# Altium footprint library 11-Fuse.PcbLib: 50 footprints (part 3 of 4)
Each footprint in its own frame and in the unit in brackets; x right, y up, seen from the top. Pads: shape width x height; smd on the part's side, far side on the other; paste and mask are expansions set on the pad; w line width, h text height; cw(c..) or ccw(c..) is an arc to the next point about the centre after c.
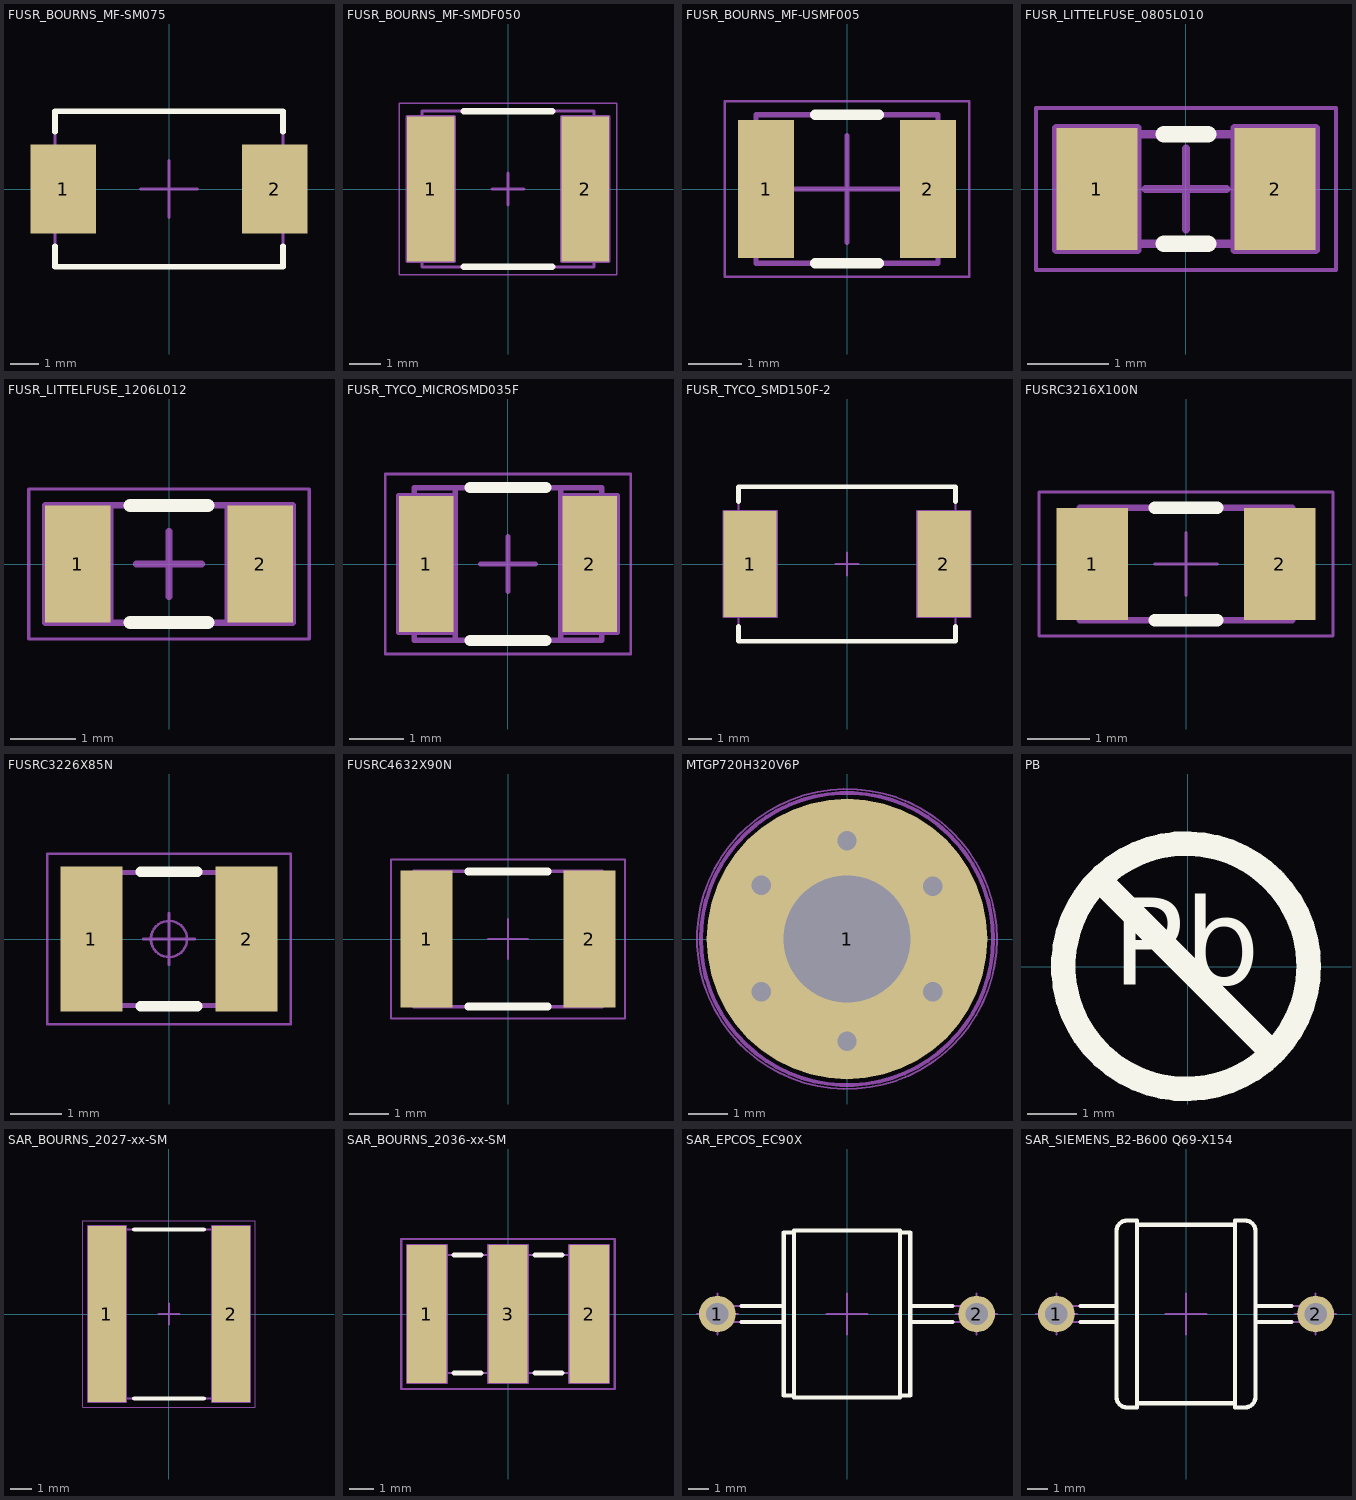
[diagram p2: the footprints below, top view; thin cyan lines are the x and y axes]

## FUSR_BOURNS_MF-SM075 [mm] "PolySwitch, 2-Leads, Body 7.35x5.12mm Nominal"
height 3.18
pads (2):
  rect 2.3x3.1 smd: 1(-3.7,0) 2(3.7,0)
Top Overlay:
  lines w0.2: -3.99,-2 -3.99,-2.72 3.99,-2.72 3.99,-2 ; -3.99,2 -3.99,2.72 3.99,2.72 3.99,2
Mechanical 8:
  lines w0.1: -4.635,0 -3.635,0 ; -3.635,-1 -3.635,0 ; -3.635,1 -3.635,0 ; -2.635,0 -3.635,0 ; -1,0 0,0 ; 0,-1 0,0 ; 0,1 0,0 ; 1,0 0,0 ; 2.635,0 3.635,0 ; 3.635,-1 3.635,0 ; 3.635,1 3.635,0 ; 4.635,0 3.635,0
Mechanical 14:
  lines w0.1: 3.99,-1.205 3.99,1.205 ; -3.99,-2.72 -3.99,2.72 3.99,2.72 3.99,-2.72 -3.99,-2.72
3D body "FUSR_BOURNS_MF-SM075.stp": height 3.18, standoff 0, extent -3.99,-2.72 3.99,2.72
3D body "p310-230.stp": height 0.02, standoff 0, extent -4.85,-1.55 -2.55,1.55
3D body "p310-230.stp": height 0.02, standoff 0, extent 2.55,-1.55 4.85,1.55

## FUSR_BOURNS_MF-SMDF050 [mm] "PTC Resettable Fuse, MF-SMDF Series"
height 1.09
pads (2):
  rect 1.5x4.6 smd: 1(-2.45,0) 2(2.45,0)
Top Overlay:
  lines w0.2: -1.4,-2.465 1.4,-2.465 ; -1.4,2.465 1.4,2.465
Mechanical 8:
  lines w0.1: -2.95,0 -2.45,0 ; -2.45,-0.5 -2.45,0 ; -2.45,0.5 -2.45,0 ; -1.95,0 -2.45,0 ; -0.5,0 0,0 ; 0,-0.5 0,0 ; 0,0.5 0,0 ; 0.5,0 0,0 ; 1.95,0 2.45,0 ; 2.45,-0.5 2.45,0 ; 2.45,0.5 2.45,0 ; 2.95,0 2.45,0 ; 1.7,-2.3 3.2,-2.3 3.2,2.3 1.7,2.3 ; 1.7,-2.3 1.7,2.3 ; 1.7,-2.3 1.7,2.3 ; -3.2,-2.3 -1.7,-2.3 -1.7,2.3 -3.2,2.3 -3.2,-2.3
Mechanical 14:
  lines w0.1: -2.72,-2.3 -1.7,-2.3 -1.7,2.3 -2.72,2.3 ; 2.72,-2.3 1.7,-2.3 1.7,2.3 2.72,2.3 ; -2.72,-2.465 2.72,-2.465 2.72,-0.5 cw(c2.72,0) 2.72,0.5 2.72,2.465 -2.72,2.465 -2.72,0.5 cw(c-2.72,0) -2.72,-0.5 -2.72,-2.465
Mechanical 15:
  lines w0.05: -3.45,-2.715 -3.45,2.715 3.45,2.715 3.45,-2.715 -3.45,-2.715
3D body "FUSR_BOURNS_MF-SMDF050.stp": height 1.09, standoff 0, extent -2.72,-2.465 2.72,2.465
3D body "p460-150.stp": height 0.02, standoff 0, extent 1.7,-2.3 3.2,2.3
3D body "p460-150.stp": height 0.02, standoff 0, extent -3.2,-2.3 -1.7,2.3

## FUSR_BOURNS_MF-USMF005 [mm] "PTC Resettable Fuse, Body 3.215mmx2.575mm, BOURNS MF-USMF Series"
height 1.1
pads (2):
  rect 1.05x2.6 smd: 1(-1.525,0) 2(1.525,0)
Top Overlay:
  lines w0.2: -0.6,-1.4 0.6,-1.4 ; -0.6,1.4 0.6,1.4
Mechanical 8:
  lines w0.1: -1,0 0,0 ; 0,-1 0,0 ; 0,1 0,0 ; 1,0 0,0
Mechanical 14:
  lines w0.1: -1.715,-1.4 1.715,-1.4 1.715,1.4 -1.715,1.4 -1.715,-1.4
Mechanical 15:
  lines w0.05: -2.3,-1.65 -2.3,1.65 2.3,1.65 2.3,-1.65 -2.3,-1.65
3D body "p260-105.stp": height 0.02, standoff 0, extent -2.049,-1.3 -0.999,1.3
3D body "p260-105.stp": height 0.02, standoff 0, extent 0.999,-1.3 2.049,1.3
3D body "FUSR_BOURNS_MF-USMF005.stp": height 1.1, standoff 0, extent -1.715,-1.4 1.715,1.4

## FUSR_LITTELFUSE_0805L010 [mm] "Surface Mount POLY-FUSE?Resettable PTC, 0805L Series"
height 1
pads (2):
  rect 1x1.5 smd: 1(-1.1,0) 2(1.1,0)
Top Overlay:
  lines w0.2: -0.275,-0.675 0.275,-0.675 ; -0.275,0.675 0.275,0.675
Mechanical 8:
  lines w0.1: -1.6,0 -1.1,0 ; -1.1,-0.5 -1.1,0 ; -1.1,0.5 -1.1,0 ; -0.6,0 -1.1,0 ; -0.5,0 0,0 ; 0,-0.5 0,0 ; 0,0.5 0,0 ; 0.5,0 0,0 ; 0.6,0 1.1,0 ; 1.1,-0.5 1.1,0 ; 1.1,0.5 1.1,0 ; 1.6,0 1.1,0 ; -1.6,-0.75 -0.6,-0.75 -0.6,0.75 -1.6,0.75 -1.6,-0.75 ; 0.6,-0.75 1.6,-0.75 1.6,0.75 0.6,0.75 0.6,-0.75
Mechanical 14:
  lines w0.1: -0.675,-0.675 -0.675,0.675 ; -0.675,-0.675 0.675,-0.675 ; -0.675,-0.675 -1.05,-0.675 -1.05,-0.275 ccw(c-1.05,0) -1.05,0.275 -1.05,0.675 -0.675,0.675 ; -0.675,-0.675 -0.675,0.675 ; -0.675,0.675 0.675,0.675 ; 0.675,-0.675 0.675,0.675 ; 0.675,-0.675 1.05,-0.675 1.05,-0.275 cw(c1.05,0) 1.05,0.275 1.05,0.675 0.675,0.675 ; 0.675,-0.675 0.675,0.675
Mechanical 15:
  lines w0.05: -1.85,-1 -1.85,1 1.85,1 1.85,-1 -1.85,-1
3D body "FUSR_LITTELFUSE_0805L010.stp": height 1, standoff 0, extent -1.05,-0.675 1.05,0.675
3D body "p150-130.stp": height 0.02, standoff 0, extent 0.4,-0.75 1.7,0.75
3D body "p150-130.stp": height 0.02, standoff 0, extent -1.7,-0.75 -0.4,0.75

## FUSR_LITTELFUSE_1206L012 [mm] "Surface Mount POLY-FUSE?Resettable PTC, 1206L Series"
height 1.45
pads (2):
  rect 1x1.8 smd: 1(-1.4,0) 2(1.4,0)
Top Overlay:
  lines w0.2: -0.6,-0.9 0.6,-0.9 ; -0.6,0.9 0.6,0.9
Mechanical 8:
  lines w0.1: -1.9,0 -1.4,0 ; -1.4,-0.5 -1.4,0 ; -1.4,0.5 -1.4,0 ; -0.9,0 -1.4,0 ; -0.5,0 0,0 ; 0,-0.5 0,0 ; 0,0.5 0,0 ; 0.5,0 0,0 ; 0.9,0 1.4,0 ; 1.4,-0.5 1.4,0 ; 1.4,0.5 1.4,0 ; 1.9,0 1.4,0 ; -1.9,-0.9 -1.9,0.9 -0.9,0.9 -0.9,-0.9 -1.9,-0.9 ; 0.9,-0.9 1.9,-0.9 1.9,0.9 0.9,0.9 0.9,-0.9
Mechanical 14:
  lines w0.1: -1,-0.9 -1,0.9 ; 1,-0.9 1,0.9 ; -1.75,-0.9 -1.75,-0.225 ccw(c-1.75,0) -1.75,0.225 -1.75,0.9 1.75,0.9 1.75,0.225 ccw(c1.75,0) 1.75,-0.225 1.75,-0.9 -1.75,-0.9
Mechanical 15:
  lines w0.05: -2.15,-1.15 2.15,-1.15 2.15,1.15 -2.15,1.15 -2.15,-1.15
3D body "p180-115.stp": height 0.02, standoff 0, extent 0.822,-0.9 1.972,0.9
3D body "p180-115.stp": height 0.02, standoff 0, extent -1.972,-0.9 -0.822,0.9
3D body "FUSR_LITTELFUSE_1206L012.stp": height 1.45, standoff 0, extent -1.75,-0.9 1.75,0.9

## FUSR_TYCO_MICROSMD035F [mm] "PolySwitch, PTC Devices, 2-Leads, Body 3.215 x 2.575mm"
height 0.62
pads (2):
  rect 1x2.5 smd: 1(-1.5,0) 2(1.5,0)
Top Overlay:
  lines w0.2: -0.7,-1.4 0.7,-1.4 ; -0.7,1.4 0.7,1.4
Mechanical 8:
  lines w0.1: -2,0 -1.5,0 ; -1.5,-0.5 -1.5,0 ; -1.5,0.5 -1.5,0 ; -1,0 -1.5,0 ; -0.5,0 0,0 ; 0,-0.5 0,0 ; 0,0.5 0,0 ; 0.5,0 0,0 ; 1,0 1.5,0 ; 1.5,-0.5 1.5,0 ; 1.5,0.5 1.5,0 ; 2,0 1.5,0 ; -2,-1.25 -2,1.25 -1,1.25 -1,-1.25 -2,-1.25 ; 1,-1.25 1,1.25 2,1.25 2,-1.25 1,-1.25
Mechanical 14:
  lines w0.1: -0.965,-1.4 -0.965,1.4 ; 0.965,-1.4 0.965,1.4 ; -1.715,-1.4 -1.715,1.4 1.715,1.4 1.715,-1.4 -1.715,-1.4
Mechanical 15:
  lines w0.05: -2.25,-1.65 -2.25,1.65 2.25,1.65 2.25,-1.65 -2.25,-1.65
3D body "p260-105.stp": height 0.02, standoff 0, extent -2.049,-1.3 -0.999,1.3
3D body "p260-105.stp": height 0.02, standoff 0, extent 0.999,-1.3 2.049,1.3
3D body "FUSR_TYCO_MICROSMD035F.stp": height 0.62, standoff 0, extent -1.7,-1.4 1.7,1.4

## FUSR_TYCO_SMD150F-2 [mm] "PolySwitch, 2-Leads, Body 8.7x6.35mm Nominal"
height 3
pads (2):
  rect 2.3x4.6 smd: 1(-4.2,0) 2(4.2,0)
Top Overlay:
  lines w0.2: -4.7,-2.7 -4.7,-3.355 4.7,-3.355 4.7,-2.7 ; -4.7,2.7 -4.7,3.355 4.7,3.355 4.7,2.7
Mechanical 8:
  lines w0.1: -4.7,0 -4.2,0 ; -4.2,-0.5 -4.2,0 ; -4.2,0.5 -4.2,0 ; -3.7,0 -4.2,0 ; -0.5,0 0,0 ; 0,-0.5 0,0 ; 0,0.5 0,0 ; 0.5,0 0,0 ; 3.7,0 4.2,0 ; 4.2,-0.5 4.2,0 ; 4.2,0.5 4.2,0 ; 4.7,0 4.2,0 ; -5.35,-2.3 -5.35,2.3 -3.05,2.3 -3.05,-2.3 -5.35,-2.3 ; 3.05,-2.3 3.05,2.3 5.35,2.3 5.35,-2.3 3.05,-2.3
Mechanical 14:
  lines w0.1: -4.7,-3.355 4.7,-3.355 4.7,3.355 -4.7,3.355 -4.7,-3.355
3D body "FUSR_TYCO_SMDC150F-2.stp": height 3, standoff 0, extent -4.7,-3.355 4.7,3.355
3D body "p460-150.stp": height 0.02, standoff 0, extent 3.95,-2.3 5.45,2.3
3D body "p460-150.stp": height 0.02, standoff 0, extent -5.45,-2.3 -3.95,2.3

## FUSRC3216X100N [mm] "Chip Resettable Fuse, 2-Leads, Body 3.2mmx1.6mm, IPC Medium Density"
height 1
pads (2):
  rect 1.15x1.8 smd: 1(-1.5,0) 2(1.5,0)
Top Overlay:
  lines w0.2: -0.5,-0.9 0.5,-0.9 ; -0.5,0.9 0.5,0.9
Mechanical 14:
  lines w0.1: -1.7,-0.9 -1.7,0.9 1.7,0.9 1.7,-0.9 -1.7,-0.9
Mechanical 15:
  lines w0.05: -0.5,0 0.5,0 ; 0,-0.5 0,0.5 ; -2.35,-1.15 -2.35,1.15 2.35,1.15 2.35,-1.15 -2.35,-1.15
3D body "FUSRC3216X100N.stp": height 1, standoff 0, extent -1.7,-0.9 1.7,0.9
3D body "p180-115.stp": height 0.02, standoff 0, extent -2.099,-0.9 -0.949,0.9
3D body "p180-115.stp": height 0.02, standoff 0, extent 0.949,-0.9 2.099,0.9

## FUSRC3226X85N [mm] "Chip Resettable Fuse, 2-Leads, Body 3.2mm x 2.6mm, IPC Medium Density"
height 0.85
pads (2):
  rect 1.2x2.8 smd: 1(-1.5,0) 2(1.5,0)
Top Overlay:
  lines w0.2: -0.55,-1.3 0.55,-1.3 ; -0.55,1.3 0.55,1.3
Mechanical 14:
  lines w0.1: -1.608,-1.288 -1.608,1.288 1.608,1.288 1.608,-1.288 -1.608,-1.288
Mechanical 15:
  circle w0.05: c0,0 r0.35
  lines w0.05: -0.5,0 0.5,0 ; 0,-0.5 0,0.5 ; -2.35,-1.65 -2.35,1.65 2.35,1.65 2.35,-1.65 -2.35,-1.65
3D body "p280-120.stp": height 0.02, standoff 0, extent -2.124,-1.4 -0.924,1.4
3D body "p280-120.stp": height 0.02, standoff 0, extent 0.924,-1.4 2.124,1.4
3D body "FUSRC3226X85N.stp": height 0.85, standoff 0, extent -1.7,-1.4 1.7,1.4

## FUSRC4632X90N [mm] "Chip Resettable Fuse, 2-Leads, Body 4.6x3.2mm, IPC Medium Density"
height 0.89
pads (2):
  rect 1.3x3.45 smd: 1(-2.05,0) 2(2.05,0)
Top Overlay:
  lines w0.2: -1,-1.7 1,-1.7 ; -1,1.7 1,1.7
Mechanical 14:
  lines w0.1: -2.365,-1.705 -2.365,1.705 2.365,1.705 2.365,-1.705 -2.365,-1.705
Mechanical 15:
  lines w0.05: -0.5,0 0.5,0 ; 0,-0.5 0,0.5 ; -2.95,-2 -2.95,2 2.95,2 2.95,-2 -2.95,-2
3D body "p345-130.stp": height 0.02, standoff 0, extent 1.4,-1.725 2.7,1.725
3D body "p345-130.stp": height 0.02, standoff 0, extent -2.7,-1.725 -1.4,1.725
3D body "FUSRC4632X90N.stp": height 0.89, standoff 0, extent -2.365,-1.705 2.365,1.705

## MTGP720H320V6P [mm]
pads (1):
  round 7.2 hole 3.25: 1(0,0)
via 2.2,-1.35 diameter 1 hole 0.5
via 0,-2.625 diameter 1 hole 0.5
via 2.2,1.35 diameter 1 hole 0.5
via 0,2.525 diameter 1 hole 0.5
via -2.2,1.375 diameter 1 hole 0.5
via -2.2,-1.35 diameter 1 hole 0.5
Mechanical 8:
  circle w0.1: c0,0 r3.75
  circle w0.1: c0,0 r2.6
  lines w0.1: -2.657,1.625 -2.224,1.375 ; -2.632,-1.6 -2.199,-1.35 ; -2.474,0.942 -2.224,1.375 ; -2.449,-0.917 -2.199,-1.35 ; -1.974,1.808 -2.224,1.375 ; -1.949,-1.783 -2.199,-1.35 ; -1.791,1.125 -2.224,1.375 ; -1.766,-1.1 -2.199,-1.35 ; -0.5,-2.625 0,-2.625 ; -0.5,0 0,0 ; -0.5,2.525 0,2.525 ; 0,-3.125 0,-2.625 ; 0,-2.125 0,-2.625 ; 0,-0.5 0,0 ; 0,0.5 0,0 ; 0,2.025 0,2.525 ; 0,3.025 0,2.525 ; 0.5,-2.625 0,-2.625 ; 0.5,0 0,0 ; 0.5,2.525 0,2.525 ; 1.766,-1.1 2.199,-1.35 ; 1.766,1.1 2.199,1.35 ; 1.949,-1.783 2.199,-1.35 ; 1.949,1.783 2.199,1.35 ; 2.449,-0.917 2.199,-1.35 ; 2.449,0.917 2.199,1.35 ; 2.632,-1.6 2.199,-1.35 ; 2.632,1.6 2.199,1.35
Mechanical 14:
  circle w0.1: c0,0 r3.75
Mechanical 15:
  circle w0.05: c0,0 r3.85
3D body "mtgp720h320v6p.stp": height 0.1, standoff -1.75, extent -3.627,-3.627 3.628,3.628

## PB [mm]
Top Overlay:
  circle w0.5: c-0.031,0.013 r2.5
  lines w0.5: -1.737,1.719 1.675,-1.693
  text "Pb" at -1.536,-0.948 h3.05
3D body "pb.stp": height 0.02, standoff 0, extent -2.725,-2.725 2.725,2.725

## SAR_BOURNS_2027-xx-SM [mm] "2-electrode Precision Gas Discharge Tube Surge Protector Body D7.93mm x L6.42mm"
height 7.93
pads (2):
  rect 1.78x8.25 smd: 1(-2.92,0) 2(2.92,0)
Top Overlay:
  lines w0.2: -1.63,-3.965 1.63,-3.965 ; -1.63,3.965 1.63,3.965
Mechanical 8:
  lines w0.1: -3.42,0 -2.92,0 ; -2.92,-0.5 -2.92,0 ; -2.92,0.5 -2.92,0 ; -2.42,0 -2.92,0 ; -0.5,0 0,0 ; 0,-0.5 0,0 ; 0,0.5 0,0 ; 0.5,0 0,0 ; 2.42,0 2.92,0 ; 2.92,-0.5 2.92,0 ; 2.92,0.5 2.92,0 ; 3.42,0 2.92,0 ; -3.81,-4.125 -3.81,4.125 -2.03,4.125 -2.03,-4.125 -3.81,-4.125 ; 2.03,-4.125 2.03,4.125 3.81,4.125 3.81,-4.125 2.03,-4.125
Mechanical 14:
  lines w0.1: -3.21,-2.97 -2.5,-2.97 ; -3.21,2.97 -2.5,2.97 ; -2.5,-3.96 -2.5,3.96 ; 2.78,-3.865 2.88,-3.965 3.11,-3.965 3.21,-3.865 3.21,3.865 3.11,3.965 2.88,3.965 2.78,3.865 ; -3.21,-3.965 -3.21,3.965 2.78,3.965 2.78,-3.965 -3.21,-3.965
Mechanical 15:
  lines w0.05: -4.06,-4.375 -4.06,4.375 4.06,4.375 4.06,-4.375 -4.06,-4.375
3D body "SAR_BOURNS_2027-xx-SM.stp": height 7.93, standoff -0.01, extent -3.21,-3.965 3.21,3.965
3D body "p825-178.stp": height 0.02, standoff 0, extent 2.031,-4.125 3.811,4.125
3D body "p825-178.stp": height 0.02, standoff 0, extent -3.811,-4.125 -2.031,4.125

## SAR_BOURNS_2036-xx-SM [mm] "3-electrode Precision Gas Discharge Tube Surge Protector Body D5 mm x L7.3 mm"
height 5
pads (3):
  rect 1.6x5.6 smd: 1(-3.3,0) 2(3.3,0) 3(0,0)
Top Overlay:
  lines w0.2: -2.2,-2.4 -1.1,-2.4 ; -2.2,2.4 -1.1,2.4 ; 1.1,-2.4 2.2,-2.4 ; 1.1,2.4 2.2,2.4
Mechanical 8:
  lines w0.1: -3.8,0 -3.3,0 ; -3.3,-0.5 -3.3,0 ; -3.3,0.5 -3.3,0 ; -2.8,0 -3.3,0 ; -0.5,0 0,0 ; 0,-0.5 0,0 ; 0,0.5 0,0 ; 0.5,0 0,0 ; 2.8,0 3.3,0 ; 3.3,-0.5 3.3,0 ; 3.3,0.5 3.3,0 ; 3.8,0 3.3,0 ; -4.1,-2.8 -4.1,2.8 -2.5,2.8 -2.5,-2.8 -4.1,-2.8 ; -0.8,-2.8 -0.8,2.8 0.8,2.8 0.8,-2.8 -0.8,-2.8 ; 2.5,-2.8 2.5,2.8 4.1,2.8 4.1,-2.8 2.5,-2.8
Mechanical 14:
  lines w0.1: -3.15,-2.4 -0.45,-2.4 ; -3.15,2.4 -0.45,2.4 ; 0.45,-2.4 2.95,-2.4 ; 0.45,2.4 2.95,2.4 ; -3.65,-2.5 -3.15,-2.5 -3.15,2.5 -3.65,2.5 -3.65,-2.5 ; -0.45,-2.5 0.45,-2.5 0.45,2.5 -0.45,2.5 -0.45,-2.5 ; 2.95,-2.5 3.65,-2.5 3.65,2.5 2.95,2.5 2.95,-2.5
Mechanical 15:
  lines w0.1: -4.35,-3.05 -4.35,3.05 4.35,3.05 4.35,-3.05 -4.35,-3.05
3D body "p560-160.stp": height 0.02, standoff 0, extent -0.8,-2.8 0.8,2.8
3D body "p560-160.stp": height 0.02, standoff 0, extent -4.102,-2.8 -2.502,2.8
3D body "p560-160.stp": height 0.02, standoff 0, extent 2.502,-2.8 4.102,2.8
3D body "SAR_BOURNS_2036-xx-SM.stp": height 5, standoff 0, extent -3.65,-2.5 3.65,2.5

## SAR_EPCOS_EC90X [mm] "Surge Arrester,Axial Diameter, Leads Spacing 12.7mm, D8.2mm x L 6.25"
height 8.2
pads (2):
  round 1.8 hole 1.1: 1(-6.35,0) 2(6.35,0)
Top Overlay:
  lines w0.2: -5.166,-0.4 -3.1,-0.4 ; -5.166,0.4 -3.1,0.4 ; -2.6,-4 -3.1,-4 -3.1,4 -2.6,4 ; 2.6,-4 3.1,-4 3.1,4 2.6,4 ; 3.1,-0.4 5.166,-0.4 ; 3.1,0.4 5.166,0.4 ; -2.6,-4.1 2.6,-4.1 2.6,4.1 -2.6,4.1 -2.6,-4.1
Mechanical 8:
  lines w0.1: -7.35,0 -6.35,0 ; -6.35,-1 -6.35,0 ; -6.35,1 -6.35,0 ; -5.35,0 -6.35,0 ; -1,0 0,0 ; 0,-1 0,0 ; 0,1 0,0 ; 1,0 0,0 ; 5.35,0 6.35,0 ; 6.35,-1 6.35,0 ; 6.35,1 6.35,0 ; 7.35,0 6.35,0
Mechanical 14:
  lines w0.1: -3.1,-0.4 -6.35,-0.4 cw(c-6.35,0) -6.35,0.4 -3.1,0.4 ; -2.6,-4 -3.1,-4 -3.1,4 -2.6,4 ; 2.6,-4 3.1,-4 3.1,4 2.6,4 ; 3.1,-0.4 6.35,-0.4 ccw(c6.35,0) 6.35,0.4 3.1,0.4 ; -2.6,-4.1 2.6,-4.1 2.6,4.1 -2.6,4.1 -2.6,-4.1
3D body "SAR_EOCOS_EC90X.stp": height 8.2, standoff -3.8, extent -6.75,-4.1 6.75,4.1
3D body "v200-100.stp": height 0.02, standoff -1.65, extent -7.35,-1 -5.35,1
3D body "v200-100.stp": height 0.02, standoff -1.65, extent 5.35,-1 7.35,1

## SAR_SIEMENS_B2-B600 Q69-X154 [mm] "Surge Arrester, Axial Diameter, Leads Spacing 12.7mm, D9.15mm x L 6.5mm"
height 9.15
pads (2):
  round 1.8 hole 1.1: 1(-6.35,0) 2(6.35,0)
Top Overlay:
  lines w0.2: -5.166,-0.4 -3.4,-0.4 ; -5.166,0.4 -3.4,0.4 ; -2.4,-4.375 2.4,-4.375 ; -2.4,4.375 2.4,4.375 ; 3.4,-0.4 5.166,-0.4 ; 3.4,0.4 5.166,0.4 ; -3.4,-4.075 ccw(c-2.9,-4.075) -2.9,-4.575 -2.4,-4.575 -2.4,4.575 -2.9,4.575 ccw(c-2.9,4.075) -3.4,4.075 -3.4,-4.075 ; 2.4,-4.575 2.9,-4.575 ccw(c2.9,-4.075) 3.4,-4.075 3.4,4.075 ccw(c2.9,4.075) 2.9,4.575 2.4,4.575 2.4,-4.575
Mechanical 8:
  lines w0.1: -7.35,0 -6.35,0 ; -6.35,-1 -6.35,0 ; -6.35,1 -6.35,0 ; -5.35,0 -6.35,0 ; -1,0 0,0 ; 0,-1 0,0 ; 0,1 0,0 ; 1,0 0,0 ; 5.35,0 6.35,0 ; 6.35,-1 6.35,0 ; 6.35,1 6.35,0 ; 7.35,0 6.35,0
Mechanical 14:
  lines w0.1: -3.4,-0.4 -6.35,-0.4 cw(c-6.35,0) -6.35,0.4 -3.4,0.4 ; -2.4,-4.375 2.4,-4.375 ; -2.4,4.375 2.4,4.375 ; 3.4,-0.4 6.35,-0.4 ccw(c6.35,0) 6.35,0.4 3.4,0.4 ; -3.4,-4.075 ccw(c-2.9,-4.075) -2.9,-4.575 -2.4,-4.575 -2.4,4.575 -2.9,4.575 ccw(c-2.9,4.075) -3.4,4.075 -3.4,-4.075 ; 2.4,-4.575 2.9,-4.575 ccw(c2.9,-4.075) 3.4,-4.075 3.4,4.075 ccw(c2.9,4.075) 2.9,4.575 2.4,4.575 2.4,-4.575
3D body "SAR_SIEMENS_B2-B600 Q69-X154.stp": height 9.15, standoff -3.8, extent -6.75,-4.575 6.75,4.575
3D body "v200-100.stp": height 0.02, standoff -1.65, extent -7.35,-1 -5.35,1
3D body "v200-100.stp": height 0.02, standoff -1.65, extent 5.35,-1 7.35,1